# EAGLE library part USB-A-SHIELD (library Socket)
USB A型母座（带可焊接固定脚）
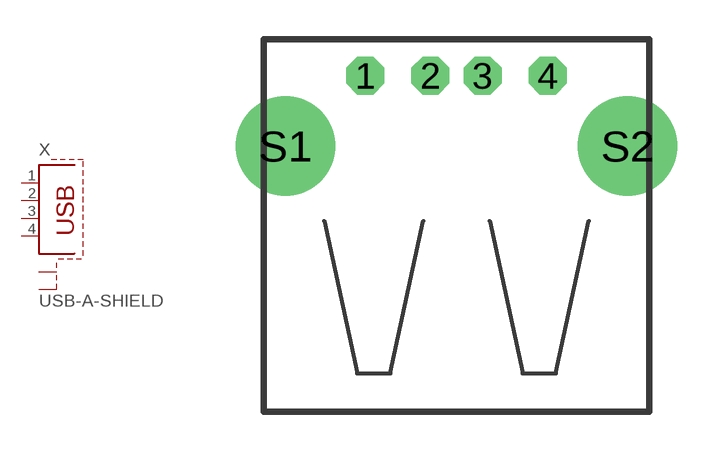
[diagram p0: symbol with the pads of USB-A-SHIELD; footprint USB-A-SHIELD]

Designator prefix X

## USB-A-SHIELD (OC_FARNELL: unknown; OC_NEWARK: unknown)  [USB-A-SHIELD]
1  1  pas
2  2  pas
3  3  pas
4  4  pas
S1  S1  pas
S2  S2  pas

## Footprint USB-A-SHIELD (pad centres in mm)
USB connector with shield
drill 0.95 octagon: 1 -3.5,2.71; 2 -1,2.71; 3 1,2.71; 4 3.5,2.71
drill 2.8: S1 -6.57,0; S2 6.57,0